# EAGLE library part HDR_1X09 (library sj_connectors)
1x09 - 0.1" Pin Header
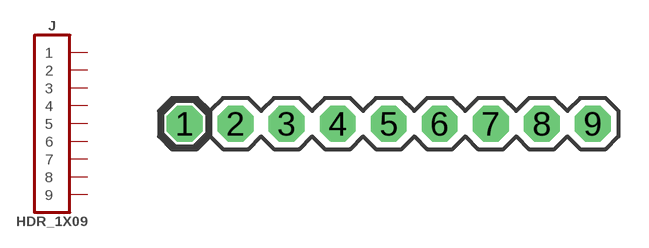
[diagram p4: symbol with the pads of HDR_1X09; footprint HDR_1X09]

Designator prefix J

## HDR_1X09  [HDR_1X09]
1  1  pas
2  2  pas
3  3  pas
4  4  pas
5  5  pas
6  6  pas
7  7  pas
8  8  pas
9  9  pas

## Footprint HDR_1X09 (pad centres in mm)
1x09 - 0.1" Pin Header Package
drill 0.838 pad 1.778 octagon: 1 0,0; 2 2.54,0; 3 5.08,0; 4 7.62,0; 5 10.16,0; 6 12.7,0; 7 15.24,0; 8 17.78,0; 9 20.32,0